# Altium schematic symbol library stm32 lib.SchLib: 1 symbol
Pins are listed as number, name and electrical type; pins without a type are passive.

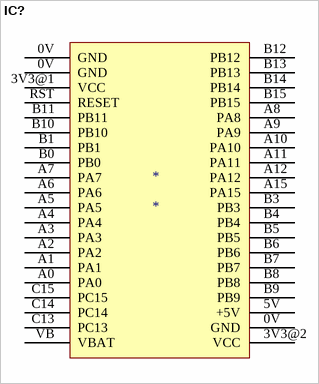
[diagram p0: symbol IC?]

## IC?
designator *
STM32 Blue Pill
footprint STM32 Blue Pill (Blue Pill)
pins: 0V GND, 0V GND, 0V GND, 3V3@1 VCC, 3V3@2 VCC, 5V +5V, A0 PA0, A1 PA1, A2 PA2, A3 PA3, A4 PA4, A5 PA5, A6 PA6, A7 PA7, A8 PA8, A9 PA9, A10 PA10, A11 PA11, A12 PA12, A15 PA15, B0 PB0, B1 PB1, B3 PB3, B4 PB4, B5 PB5, B6 PB6, B7 PB7, B8 PB8, B9 PB9, B10 PB10, B11 PB11, B12 PB12, B13 PB13, B14 PB14, B15 PB15, C13 PC13, C14 PC14, C15 PC15, RST RESET, VB VBAT